# EAGLE library part PT2399 (library jason_eagle6)
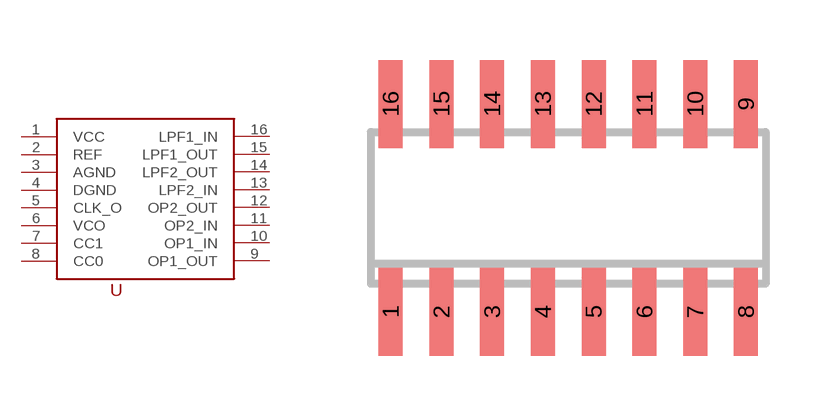
[diagram p25: symbol with the pads of SO16; footprint SO16]

Designator prefix -

## PT2399  [SO16]
1  VCC  pwr
2  REF
3  AGND  pwr
4  DGND  pwr
5  CLK_O
6  VCO
7  CC1
8  CC0
9  OP1_OUT
10  OP1_IN
11  OP2_IN
12  OP2_OUT
13  LPF2_IN
14  LPF2_OUT
15  LPF1_OUT
16  LPF1_IN

## Footprint SO16 (pad centres in mm)
SMALL OUTLINE INTEGRATED CIRCUIT body 3.9 mm/JEDEC MS-012AC
smd 0.6 x 2.2: 1 -4.445,-2.6; 2 -3.175,-2.6; 3 -1.905,-2.6; 4 -0.635,-2.6; 5 0.635,-2.6; 6 1.905,-2.6; 7 3.175,-2.6; 8 4.445,-2.6; 9 4.445,2.6; 10 3.175,2.6; 11 1.905,2.6; 12 0.635,2.6; 13 -0.635,2.6; 14 -1.905,2.6; 15 -3.175,2.6; 16 -4.445,2.6